# EAGLE library part 39-30-?18? (library con-molex-mini-fit)
HEADER
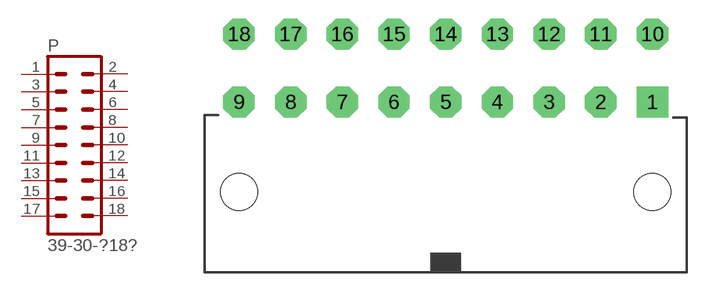
[diagram p6: symbol with the pads of 39-30-?18?; footprint 39-30-?18?]

Designator prefix P

## 39-30-18  [39-30-?18?]
1  1  pas
2  2  pas
3  3  pas
4  4  pas
5  5  pas
6  6  pas
7  7  pas
8  8  pas
9  9  pas
10  10  pas
11  11  pas
12  12  pas
13  13  pas
14  14  pas
15  15  pas
16  16  pas
17  17  pas
18  18  pas

## Footprint 39-30-?18? (pad centres in mm)
HEADER
drill 1.422 pad 2.54 square: 1 16.764,0
drill 1.422 pad 2.54 octagon: 2 12.573,0; 3 8.382,0; 4 4.191,0; 5 0,0; 6 -4.191,0; 7 -8.382,0; 8 -12.573,0; 9 -16.764,0; 10 16.764,5.512; 11 12.573,5.512; 12 8.382,5.512; 13 4.191,5.512; 14 0,5.512; 15 -4.191,5.512; 16 -8.382,5.512; 17 -12.573,5.512; 18 -16.764,5.512
hole 3 at -16.764,-7.3
hole 3 at 16.764,-7.3